# EAGLE library part FAMICOM-CART-EDGE (library famicom bootleg mover)
MEMORY
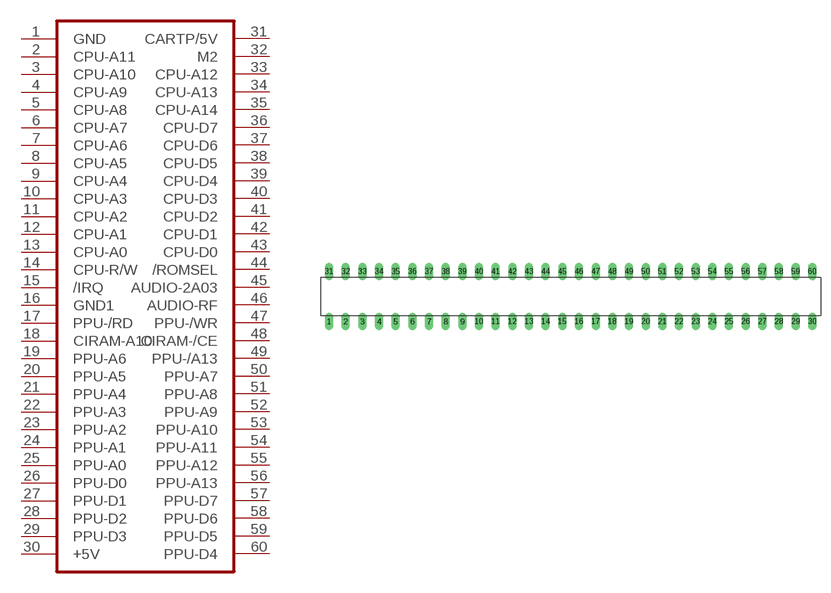
[diagram p0: symbol with the pads of DIL60; footprint DIL60]

Designator prefix IC

## FAMICOM-CART-EDGE  [DIL60]
1  GND  in
2  CPU-A11  in
3  CPU-A10  in
4  CPU-A9  in
5  CPU-A8  in
6  CPU-A7  in
7  CPU-A6  in
8  CPU-A5  in
9  CPU-A4  in
10  CPU-A3  in
11  CPU-A2  in
12  CPU-A1  in
13  CPU-A0  in
14  CPU-R/W  in
15  /IRQ  in
16  GND1  in
17  PPU-/RD  in
18  CIRAM-A10  in
19  PPU-A6  in
20  PPU-A5  in
21  PPU-A4  in
22  PPU-A3  in
23  PPU-A2  in
24  PPU-A1  in
25  PPU-A0  in
26  PPU-D0  in
27  PPU-D1  in
28  PPU-D2  in
29  PPU-D3  in
30  +5V  in
31  CARTP/5V  oc
32  M2  oc
33  CPU-A12  oc
34  CPU-A13  oc
35  CPU-A14  oc
36  CPU-D7  oc
37  CPU-D6  oc
38  CPU-D5  oc
39  CPU-D4  oc
40  CPU-D3  oc
41  CPU-D2  oc
42  CPU-D1  oc
43  CPU-D0  oc
44  /ROMSEL  oc
45  AUDIO-2A03  oc
46  AUDIO-RF  oc
47  PPU-/WR  oc
48  CIRAM-/CE  oc
49  PPU-/A13  in
50  PPU-A7  in
51  PPU-A8  in
52  PPU-A9  in
53  PPU-A10  in
54  PPU-A11  in
55  PPU-A12  in
56  PPU-A13  in
57  PPU-D7  in
58  PPU-D6  in
59  PPU-D5  in
60  PPU-D4  in

## Footprint DIL60 (pad centres in mm)
Dual In Line Package
drill 0.813 long: 1 -11.43,-3.81; 2 -8.89,-3.81; 3 -6.35,-3.81; 4 -3.81,-3.81; 5 -1.27,-3.81; 6 1.27,-3.81; 7 3.81,-3.81; 8 6.35,-3.81; 9 8.89,-3.81; 10 11.43,-3.81; 11 13.97,-3.81; 12 16.51,-3.81; 13 19.05,-3.81; 14 21.59,-3.81; 15 24.13,-3.81; 16 26.67,-3.81; 17 29.21,-3.81; 18 31.75,-3.81; 19 34.29,-3.81; 20 36.83,-3.81; 21 39.37,-3.81; 22 41.91,-3.81; 23 44.45,-3.81; 24 46.99,-3.81; 25 49.53,-3.81; 26 52.07,-3.81; 27 54.61,-3.81; 28 57.15,-3.81; 29 59.69,-3.81; 30 62.23,-3.81; 31 -11.43,3.81; 32 -8.89,3.81; 33 -6.35,3.81; 34 -3.81,3.81; 35 -1.27,3.81; 36 1.27,3.81; 37 3.81,3.81; 38 6.35,3.81; 39 8.89,3.81; 40 11.43,3.81; 41 13.97,3.81; 42 16.51,3.81; 43 19.05,3.81; 44 21.59,3.81; 45 24.13,3.81; 46 26.67,3.81; 47 29.21,3.81; 48 31.75,3.81; 49 34.29,3.81; 50 36.83,3.81; 51 39.37,3.81; 52 41.91,3.81; 53 44.45,3.81; 54 46.99,3.81; 55 49.53,3.81; 56 52.07,3.81; 57 54.61,3.81; 58 57.15,3.81; 59 59.69,3.81; 60 62.23,3.81